# EAGLE library part WE-TVS_82401444 (library Wurth_Elektronik_Passive_rev15e)
TVS Diode Super Speed Series Characteristics Operating temperature: –55 ºC to +85 °C for 824 014 x; –40 ºC to +85 °C for 824 016 46 Low clamping voltage Very low capacitance Rail to Rail protection Epoxy flame resistant UL94 V-0 RoHS, REACH and free of halogens Applications Super Speed data lines HDMI 1.3/1.4, DVI DisplayPort USB 3.0 SuperSpeed SATA GBit LAN ESD protection in accordance with EN 61000-4-2 – 8 kV contact discharge – 15 kV air discharge <http://katalog.we-online.de/media/images/eisos/VarTVS_highspeed_pf2.jpg.jpg> Details see: http://katalog.we-online.de/en/pbs/WE-TVS_High_Speed/24014? Updated by Dan Xu 2014-07-11 2014 (C) Wurth Elektronik
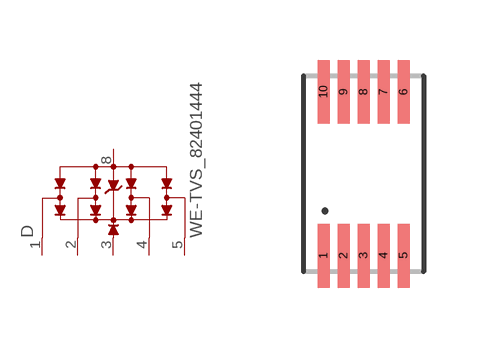
[diagram p46: symbol with the pads of WE-TVS_MSOP-10L; footprint WE-TVS_MSOP-10L]

Designator prefix D

## WE-TVS_82401444  [WE-TVS_MSOP-10L]
1  1  pas
2  2  pas
3  VDD  pwr
4  3  pas
5  4  pas
8  GND  pwr

## Footprint WE-TVS_MSOP-10L (pad centres in mm)
TVS Diode Array WE-TVS
smd 0.3 x 1.6: 1 -1,-2.05; 2 -0.5,-2.05; 3 0,-2.05; 4 0.5,-2.05; 5 1,-2.05; 6 1,2.05; 7 0.5,2.05; 8 0,2.05; 9 -0.5,2.05; 10 -1,2.05